# Altium integrated library NSC Interface.IntLib: 1288 symbols (part 28 of 45)
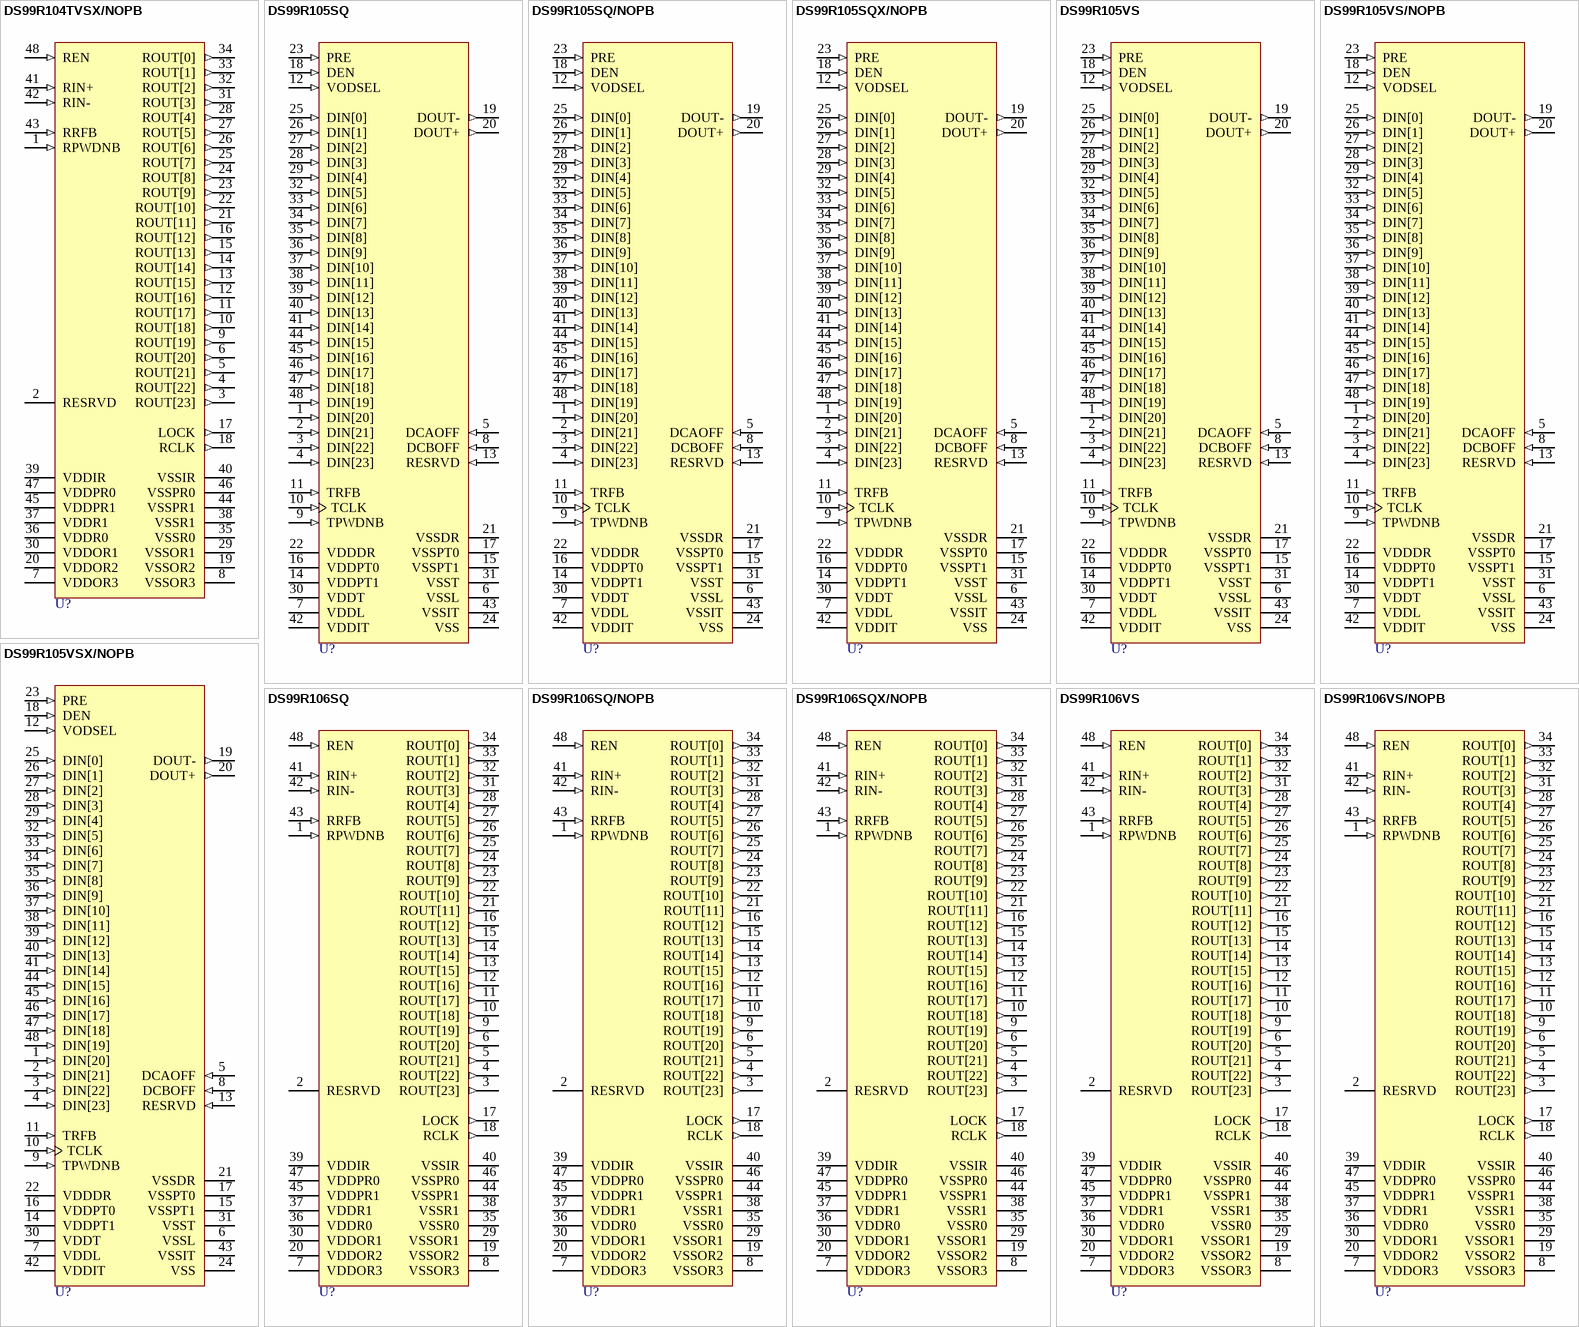
[diagram p139: symbols DS99R104TVSX/NOPB to DS99R106VS/NOPB]

## DS99R106SQ/NOPB
designator U?
3-40MHz DC- Balanced 24-Bit LVDS Deserializer, 48-pin LLP, Pb-Free; PartNumber: DS99R106SQ/NOPB; Manufacturer: National Semiconductor; PackageTopMarking: NS*UZXYTTE#*DS99R106; PowerWise: N; CompType: Interface IC; Published: 1-Mar-2010; DatasheetVersion: Oct-2007; PackageVersion: revA, Jul-2004; PackageReference: SQA48D; Publisher: Altium Limited; PackageDescription: LLP, Quad, 7 x 7 x 0.8mm, 48 Lead, 0.5mm Pitch, 4.1 x 4.1 Exposed Pad; Supplier 1: Digi-Key; Supplier Part Number 1: DS99R106SQTR-ND; Supplier 2: Digi-Key; Supplier Part Number 2: DS99R106SQCT-ND; Supplier 3: Digi-Key; Supplier Part Number 3: DS99R106SQDKR-ND; RoHS: Y; PinCount: 48; ComponentLink1Description: DS99R106 Datasheet; ComponentLink1URL: http://www.national.com/ds/DS/DS99R106.pdf; ComponentLink2Description: DS99R106 Web Page; ComponentLink2URL: http://www.national.com/pf/DS/DS99R106.html; ComponentLink3Description: SQA48D Package Page; ComponentLink3URL: http://www.national.com/packaging/folders/sqa48d.html
footprint SQA48D (QFN, 48-Leads, Body 7x7mm, Pitch 0.5mm, NSC Recommended)
pins: 1 RPWDNB (in), 2 RESRVD, 3 ROUT[23] (out), 4 ROUT[22] (out), 5 ROUT[21] (out), 6 ROUT[20] (out), 7 VDDOR3 (power), 8 VSSOR3 (power), 9 ROUT[19] (out), 10 ROUT[18] (out), 11 ROUT[17] (out), 12 ROUT[16] (out), 13 ROUT[15] (out), 14 ROUT[14] (out), 15 ROUT[13] (out), 16 ROUT[12] (out), 17 LOCK (out), 18 RCLK (out), 19 VSSOR2 (power), 20 VDDOR2 (power), 21 ROUT[11] (out), 22 ROUT[10] (out), 23 ROUT[9] (out), 24 ROUT[8] (out), 25 ROUT[7] (out), 26 ROUT[6] (out), 27 ROUT[5] (out), 28 ROUT[4] (out), 29 VSSOR1 (power), 30 VDDOR1 (power), 31 ROUT[3] (out), 32 ROUT[2] (out), 33 ROUT[1] (out), 34 ROUT[0] (out), 35 VSSR0 (power), 36 VDDR0 (power), 37 VDDR1 (power), 38 VSSR1 (power), 39 VDDIR (power), 40 VSSIR (power), 41 RIN+ (in), 42 RIN- (in), 43 RRFB (in), 44 VSSPR1 (power), 45 VDDPR1 (power), 46 VSSPR0 (power), 47 VDDPR0 (power), 48 REN (in)

## DS99R106SQX/NOPB
designator U?
3-40MHz DC- Balanced 24-Bit LVDS Deserializer, 48-pin LLP, Pb-Free; PartNumber: DS99R106SQX/NOPB; Manufacturer: National Semiconductor; PackageTopMarking: NS*UZXYTTE#*DS99R106; PowerWise: N; CompType: Interface IC; Published: 1-Mar-2010; DatasheetVersion: Oct-2007; PackageVersion: revA, Jul-2004; PackageReference: SQA48D; Publisher: Altium Limited; PackageDescription: LLP, Quad, 7 x 7 x 0.8mm, 48 Lead, 0.5mm Pitch, 4.1 x 4.1 Exposed Pad; Supplier 1: Digi-Key; Supplier Part Number 1: DS99R106SQX-ND; RoHS: Y; PinCount: 48; ComponentLink1Description: DS99R106 Datasheet; ComponentLink1URL: http://www.national.com/ds/DS/DS99R106.pdf; ComponentLink2Description: DS99R106 Web Page; ComponentLink2URL: http://www.national.com/pf/DS/DS99R106.html; ComponentLink3Description: SQA48D Package Page; ComponentLink3URL: http://www.national.com/packaging/folders/sqa48d.html
footprint SQA48D (QFN, 48-Leads, Body 7x7mm, Pitch 0.5mm, NSC Recommended)
pins: 1 RPWDNB (in), 2 RESRVD, 3 ROUT[23] (out), 4 ROUT[22] (out), 5 ROUT[21] (out), 6 ROUT[20] (out), 7 VDDOR3 (power), 8 VSSOR3 (power), 9 ROUT[19] (out), 10 ROUT[18] (out), 11 ROUT[17] (out), 12 ROUT[16] (out), 13 ROUT[15] (out), 14 ROUT[14] (out), 15 ROUT[13] (out), 16 ROUT[12] (out), 17 LOCK (out), 18 RCLK (out), 19 VSSOR2 (power), 20 VDDOR2 (power), 21 ROUT[11] (out), 22 ROUT[10] (out), 23 ROUT[9] (out), 24 ROUT[8] (out), 25 ROUT[7] (out), 26 ROUT[6] (out), 27 ROUT[5] (out), 28 ROUT[4] (out), 29 VSSOR1 (power), 30 VDDOR1 (power), 31 ROUT[3] (out), 32 ROUT[2] (out), 33 ROUT[1] (out), 34 ROUT[0] (out), 35 VSSR0 (power), 36 VDDR0 (power), 37 VDDR1 (power), 38 VSSR1 (power), 39 VDDIR (power), 40 VSSIR (power), 41 RIN+ (in), 42 RIN- (in), 43 RRFB (in), 44 VSSPR1 (power), 45 VDDPR1 (power), 46 VSSPR0 (power), 47 VDDPR0 (power), 48 REN (in)

## DS99R106VS
designator U?
3-40MHz DC- Balanced 24-Bit LVDS Deserializer, 48-pin TQFP; PartNumber: DS99R106VS; Manufacturer: National Semiconductor; PackageTopMarking: NSUZXYTT*DS99R106*VS; PowerWise: N; CompType: Interface IC; Published: 4-Dec-2008; DatasheetVersion: Oct-2007; PackageVersion: revA, Apr-2000; PackageReference: VBC48A; Publisher: Altium Limited; PackageDescription: TQFP, Jedec Metric, 7 x 7 x 1mm, 48 Lead, 0.5mm Pitch; RoHS: Y; PinCount: 48; Code_JEDEC: MS-026-ABC; ComponentLink1Description: DS99R106 Datasheet; ComponentLink1URL: http://www.national.com/ds/DS/DS99R106.pdf; ComponentLink2Description: DS99R106 Web Page; ComponentLink2URL: http://www.national.com/pf/DS/DS99R106.html; ComponentLink3Description: VBC48A Package Page; ComponentLink3URL: http://www.national.com/packaging/folders/vbc48a.html
footprint VBC48A_N (Thin QFP, 48-Leads, Body 7x7mm, Pitch 0.5mm, IPC Medium Density)
footprint VBC48A_L (Thin QFP, 48-Leads, Body 7x7mm, Pitch 0.5mm, IPC High Density)
footprint VBC48A_M (Thin QFP, 48-Leads, Body 7x7mm, Pitch 0.5mm, IPC Low Density)
pins: 1 RPWDNB (in), 2 RESRVD, 3 ROUT[23] (out), 4 ROUT[22] (out), 5 ROUT[21] (out), 6 ROUT[20] (out), 7 VDDOR3 (power), 8 VSSOR3 (power), 9 ROUT[19] (out), 10 ROUT[18] (out), 11 ROUT[17] (out), 12 ROUT[16] (out), 13 ROUT[15] (out), 14 ROUT[14] (out), 15 ROUT[13] (out), 16 ROUT[12] (out), 17 LOCK (out), 18 RCLK (out), 19 VSSOR2 (power), 20 VDDOR2 (power), 21 ROUT[11] (out), 22 ROUT[10] (out), 23 ROUT[9] (out), 24 ROUT[8] (out), 25 ROUT[7] (out), 26 ROUT[6] (out), 27 ROUT[5] (out), 28 ROUT[4] (out), 29 VSSOR1 (power), 30 VDDOR1 (power), 31 ROUT[3] (out), 32 ROUT[2] (out), 33 ROUT[1] (out), 34 ROUT[0] (out), 35 VSSR0 (power), 36 VDDR0 (power), 37 VDDR1 (power), 38 VSSR1 (power), 39 VDDIR (power), 40 VSSIR (power), 41 RIN+ (in), 42 RIN- (in), 43 RRFB (in), 44 VSSPR1 (power), 45 VDDPR1 (power), 46 VSSPR0 (power), 47 VDDPR0 (power), 48 REN (in)

## DS99R106VS/NOPB
designator U?
3-40MHz DC- Balanced 24-Bit LVDS Deserializer, 48-pin TQFP, Pb-Free; PartNumber: DS99R106VS/NOPB; Manufacturer: National Semiconductor; PackageTopMarking: NSUZXYTT*DS99R106*VS; PowerWise: N; CompType: Interface IC; Published: 1-Mar-2010; DatasheetVersion: Oct-2007; PackageVersion: revA, Apr-2000; PackageReference: VBC48A; Publisher: Altium Limited; PackageDescription: TQFP, Jedec Metric, 7 x 7 x 1mm, 48 Lead, 0.5mm Pitch; Supplier 1: Digi-Key; Supplier Part Number 1: DS99R106VS-ND; RoHS: Y; PinCount: 48; Code_JEDEC: MS-026-ABC; ComponentLink1Description: DS99R106 Datasheet; ComponentLink1URL: http://www.national.com/ds/DS/DS99R106.pdf; ComponentLink2Description: DS99R106 Web Page; ComponentLink2URL: http://www.national.com/pf/DS/DS99R106.html; ComponentLink3Description: VBC48A Package Page; ComponentLink3URL: http://www.national.com/packaging/folders/vbc48a.html
footprint VBC48A_N (Thin QFP, 48-Leads, Body 7x7mm, Pitch 0.5mm, IPC Medium Density)
footprint VBC48A_L (Thin QFP, 48-Leads, Body 7x7mm, Pitch 0.5mm, IPC High Density)
footprint VBC48A_M (Thin QFP, 48-Leads, Body 7x7mm, Pitch 0.5mm, IPC Low Density)
pins: 1 RPWDNB (in), 2 RESRVD, 3 ROUT[23] (out), 4 ROUT[22] (out), 5 ROUT[21] (out), 6 ROUT[20] (out), 7 VDDOR3 (power), 8 VSSOR3 (power), 9 ROUT[19] (out), 10 ROUT[18] (out), 11 ROUT[17] (out), 12 ROUT[16] (out), 13 ROUT[15] (out), 14 ROUT[14] (out), 15 ROUT[13] (out), 16 ROUT[12] (out), 17 LOCK (out), 18 RCLK (out), 19 VSSOR2 (power), 20 VDDOR2 (power), 21 ROUT[11] (out), 22 ROUT[10] (out), 23 ROUT[9] (out), 24 ROUT[8] (out), 25 ROUT[7] (out), 26 ROUT[6] (out), 27 ROUT[5] (out), 28 ROUT[4] (out), 29 VSSOR1 (power), 30 VDDOR1 (power), 31 ROUT[3] (out), 32 ROUT[2] (out), 33 ROUT[1] (out), 34 ROUT[0] (out), 35 VSSR0 (power), 36 VDDR0 (power), 37 VDDR1 (power), 38 VSSR1 (power), 39 VDDIR (power), 40 VSSIR (power), 41 RIN+ (in), 42 RIN- (in), 43 RRFB (in), 44 VSSPR1 (power), 45 VDDPR1 (power), 46 VSSPR0 (power), 47 VDDPR0 (power), 48 REN (in)

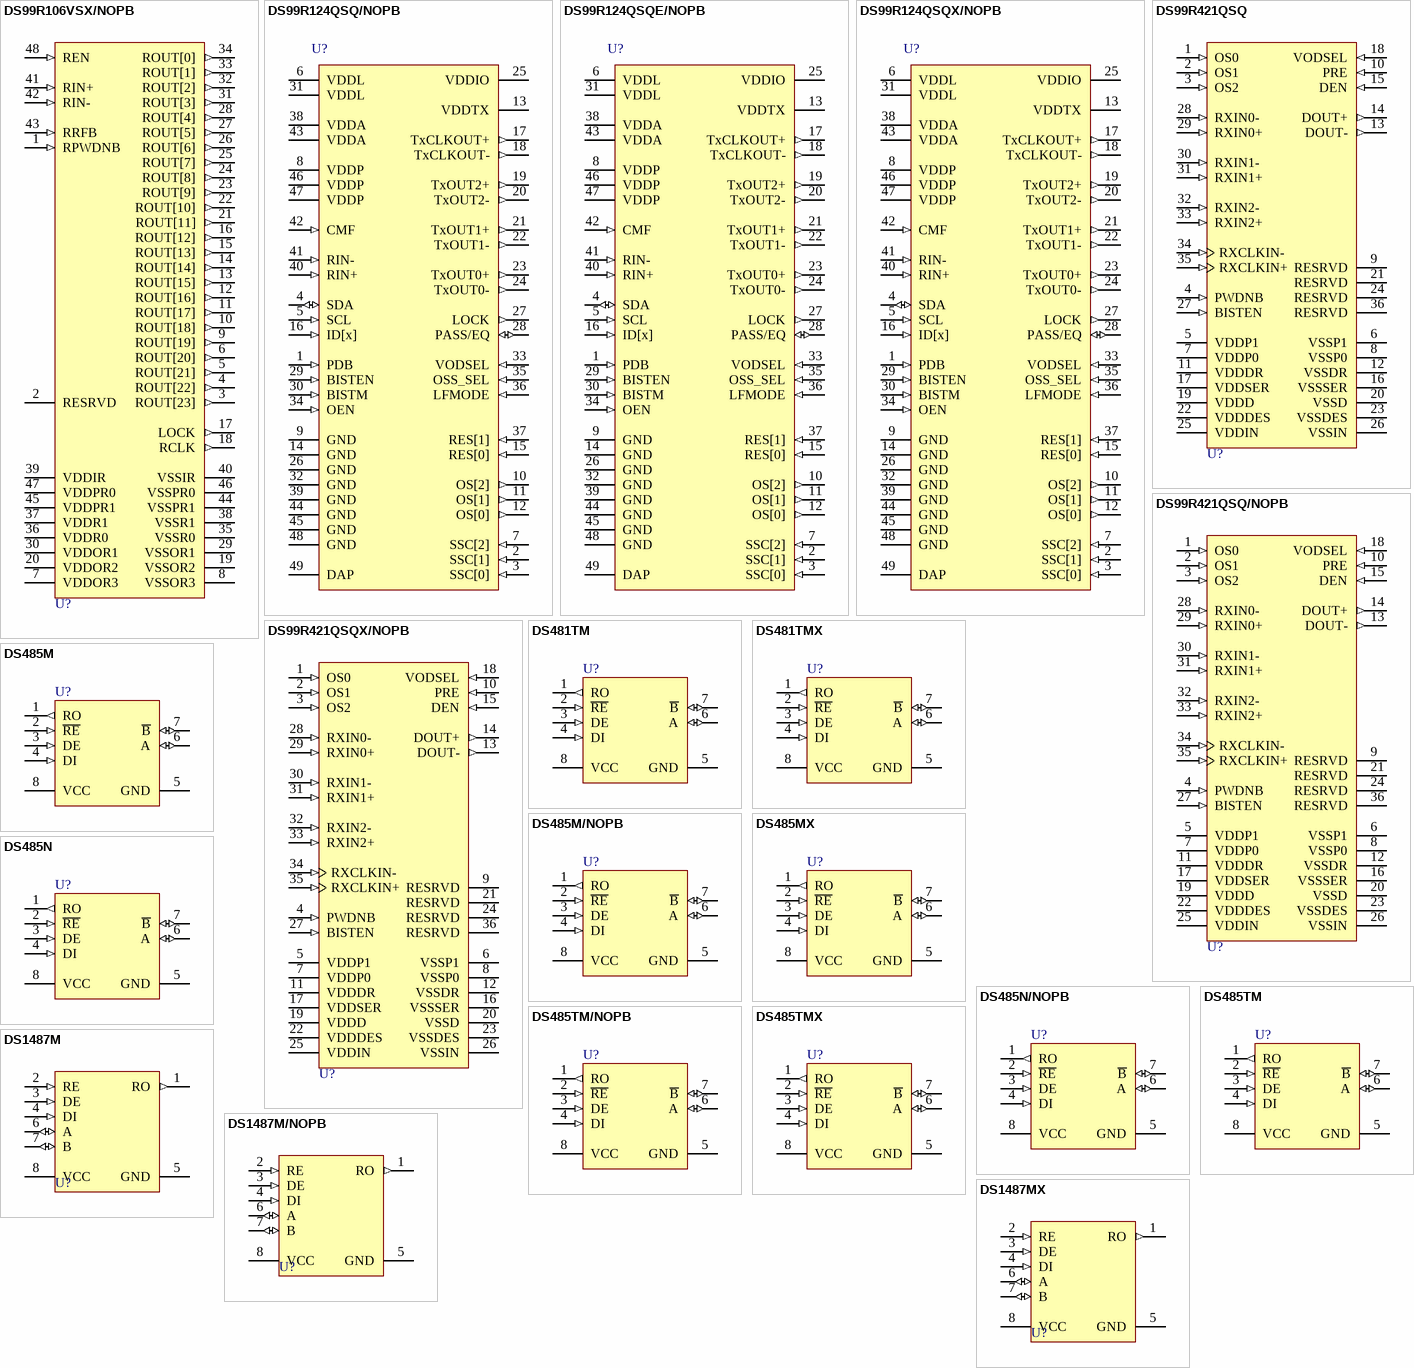
[diagram p73: symbols DS99R106VSX/NOPB to DS1487MX]

## DS99R106VSX/NOPB
designator U?
3-40MHz DC- Balanced 24-Bit LVDS Deserializer, 48-pin TQFP, Pb-Free; PartNumber: DS99R106VSX/NOPB; Manufacturer: National Semiconductor; PackageTopMarking: NSUZXYTT*DS99R106*VS; PowerWise: N; CompType: Interface IC; Published: 1-Mar-2010; DatasheetVersion: Oct-2007; PackageVersion: revA, Apr-2000; PackageReference: VBC48A; Publisher: Altium Limited; PackageDescription: TQFP, Jedec Metric, 7 x 7 x 1mm, 48 Lead, 0.5mm Pitch; Supplier 1: Digi-Key; Supplier Part Number 1: DS99R106VSX-ND; RoHS: Y; PinCount: 48; Code_JEDEC: MS-026-ABC; ComponentLink1Description: DS99R106 Datasheet; ComponentLink1URL: http://www.national.com/ds/DS/DS99R106.pdf; ComponentLink2Description: DS99R106 Web Page; ComponentLink2URL: http://www.national.com/pf/DS/DS99R106.html; ComponentLink3Description: VBC48A Package Page; ComponentLink3URL: http://www.national.com/packaging/folders/vbc48a.html
footprint VBC48A_N (Thin QFP, 48-Leads, Body 7x7mm, Pitch 0.5mm, IPC Medium Density)
footprint VBC48A_L (Thin QFP, 48-Leads, Body 7x7mm, Pitch 0.5mm, IPC High Density)
footprint VBC48A_M (Thin QFP, 48-Leads, Body 7x7mm, Pitch 0.5mm, IPC Low Density)
pins: 1 RPWDNB (in), 2 RESRVD, 3 ROUT[23] (out), 4 ROUT[22] (out), 5 ROUT[21] (out), 6 ROUT[20] (out), 7 VDDOR3 (power), 8 VSSOR3 (power), 9 ROUT[19] (out), 10 ROUT[18] (out), 11 ROUT[17] (out), 12 ROUT[16] (out), 13 ROUT[15] (out), 14 ROUT[14] (out), 15 ROUT[13] (out), 16 ROUT[12] (out), 17 LOCK (out), 18 RCLK (out), 19 VSSOR2 (power), 20 VDDOR2 (power), 21 ROUT[11] (out), 22 ROUT[10] (out), 23 ROUT[9] (out), 24 ROUT[8] (out), 25 ROUT[7] (out), 26 ROUT[6] (out), 27 ROUT[5] (out), 28 ROUT[4] (out), 29 VSSOR1 (power), 30 VDDOR1 (power), 31 ROUT[3] (out), 32 ROUT[2] (out), 33 ROUT[1] (out), 34 ROUT[0] (out), 35 VSSR0 (power), 36 VDDR0 (power), 37 VDDR1 (power), 38 VSSR1 (power), 39 VDDIR (power), 40 VSSIR (power), 41 RIN+ (in), 42 RIN- (in), 43 RRFB (in), 44 VSSPR1 (power), 45 VDDPR1 (power), 46 VSSPR0 (power), 47 VDDPR0 (power), 48 REN (in)

## DS99R124QSQ/NOPB
designator U?
5 - 43 MHz 18-bit Color FPD-Link II to FPD-Link Converter, 48 pin LLP, Pb-Free; PartNumber: DS99R124QSQ/NOPB; Manufacturer: National Semiconductor; PackageTopMarking: NS*UZXYTTE#*DS99R124Q; PowerWise: N; CompType: Interface IC; Published: 1-Mar-2010; DatasheetVersion: Jan-2010; PackageVersion: revA, Jul-2004; PackageReference: SQA48D; Publisher: Altium Limited; PackageDescription: LLP, Quad, 7 x 7 x 0.8mm, 48 Lead, 0.5mm Pitch, 4.1 x 4.1 Exposed Pad; Supplier 1: Digi-Key; Supplier Part Number 1: DS99R124QSQ-ND; RoHS: Y; PinCount: 48; ComponentLink1Description: DS99R124Q Datasheet; ComponentLink1URL: http://www.national.com/ds/DS/DS99R124Q.pdf; ComponentLink2Description: DS99R124Q Web Page; ComponentLink2URL: http://www.national.com/pf/DS/DS99R124Q.html; ComponentLink3Description: SQA48D Package Page; ComponentLink3URL: http://www.national.com/packaging/folders/sqa48d.html
footprint SQA48D (QFN, 48-Leads, Body 7x7mm, Pitch 0.5mm, NSC Recommended)
pins: 1 PDB (in), 2 SSC[1] (in), 3 SSC[0] (in), 4 SDA (io), 5 SCL (in), 6 VDDL (power), 7 SSC[2] (in), 8 VDDP (power), 9 GND (power), 10 OS[2] (out), 11 OS[1] (out), 12 OS[0] (out), 13 VDDTX (power), 14 GND (power), 15 RES[0] (in), 16 ID[x] (in), 17 TxCLKOUT+ (out), 18 TxCLKOUT- (out), 19 TxOUT2+ (out), 20 TxOUT2- (out), 21 TxOUT1+ (out), 22 TxOUT1- (out), 23 TxOUT0+ (out), 24 TxOUT0- (out), 25 VDDIO (power), 26 GND (power), 27 LOCK (out), 28 PASS/EQ (io), 29 BISTEN (in), 30 BISTM (in), 31 VDDL (power), 32 GND (power), 33 VODSEL (in), 34 OEN (in), 35 OSS_SEL (in), 36 LFMODE (in), 37 RES[1] (in), 38 VDDA (power), 39 GND (power), 40 RIN+ (in), 41 RIN- (in), 42 CMF (in), 43 VDDA (power), 44 GND (power), 45 GND (power), 46 VDDP (power), 47 VDDP (power), 48 GND (power), 49 DAP (power)

## DS99R124QSQE/NOPB
designator U?
5 - 43 MHz 18-bit Color FPD-Link II to FPD-Link Converter, 48 pin LLP, Pb-Free; PartNumber: DS99R124QSQE/NOPB; Manufacturer: National Semiconductor; PackageTopMarking: NS*UZXYTTE#*DS99R124Q; PowerWise: N; CompType: Interface IC; Published: 1-Mar-2010; DatasheetVersion: Jan-2010; PackageVersion: revA, Jul-2004; PackageReference: SQA48D; Publisher: Altium Limited; PackageDescription: LLP, Quad, 7 x 7 x 0.8mm, 48 Lead, 0.5mm Pitch, 4.1 x 4.1 Exposed Pad; Supplier 1: Digi-Key; Supplier Part Number 1: DS99R124QSQETR-ND; Supplier 2: Digi-Key; Supplier Part Number 2: DS99R124QSQECT-ND; Supplier 3: Digi-Key; Supplier Part Number 3: DS99R124QSQEDKR-ND; RoHS: Y; PinCount: 48; ComponentLink1Description: DS99R124Q Datasheet; ComponentLink1URL: http://www.national.com/ds/DS/DS99R124Q.pdf; ComponentLink2Description: DS99R124Q Web Page; ComponentLink2URL: http://www.national.com/pf/DS/DS99R124Q.html; ComponentLink3Description: SQA48D Package Page; ComponentLink3URL: http://www.national.com/packaging/folders/sqa48d.html
footprint SQA48D (QFN, 48-Leads, Body 7x7mm, Pitch 0.5mm, NSC Recommended)
pins: 1 PDB (in), 2 SSC[1] (in), 3 SSC[0] (in), 4 SDA (io), 5 SCL (in), 6 VDDL (power), 7 SSC[2] (in), 8 VDDP (power), 9 GND (power), 10 OS[2] (out), 11 OS[1] (out), 12 OS[0] (out), 13 VDDTX (power), 14 GND (power), 15 RES[0] (in), 16 ID[x] (in), 17 TxCLKOUT+ (out), 18 TxCLKOUT- (out), 19 TxOUT2+ (out), 20 TxOUT2- (out), 21 TxOUT1+ (out), 22 TxOUT1- (out), 23 TxOUT0+ (out), 24 TxOUT0- (out), 25 VDDIO (power), 26 GND (power), 27 LOCK (out), 28 PASS/EQ (io), 29 BISTEN (in), 30 BISTM (in), 31 VDDL (power), 32 GND (power), 33 VODSEL (in), 34 OEN (in), 35 OSS_SEL (in), 36 LFMODE (in), 37 RES[1] (in), 38 VDDA (power), 39 GND (power), 40 RIN+ (in), 41 RIN- (in), 42 CMF (in), 43 VDDA (power), 44 GND (power), 45 GND (power), 46 VDDP (power), 47 VDDP (power), 48 GND (power), 49 DAP (power)

## DS99R124QSQX/NOPB
designator U?
5 - 43 MHz 18-bit Color FPD-Link II to FPD-Link Converter, 48 pin LLP, Pb-Free; PartNumber: DS99R124QSQX/NOPB; Manufacturer: National Semiconductor; PackageTopMarking: NS*UZXYTTE#*DS99R124Q; PowerWise: N; CompType: Interface IC; Published: 1-Mar-2010; DatasheetVersion: Jan-2010; PackageVersion: revA, Jul-2004; PackageReference: SQA48D; Publisher: Altium Limited; PackageDescription: LLP, Quad, 7 x 7 x 0.8mm, 48 Lead, 0.5mm Pitch, 4.1 x 4.1 Exposed Pad; Supplier 1: Digi-Key; Supplier Part Number 1: DS99R124QSQX-ND; RoHS: Y; PinCount: 48; ComponentLink1Description: DS99R124Q Datasheet; ComponentLink1URL: http://www.national.com/ds/DS/DS99R124Q.pdf; ComponentLink2Description: DS99R124Q Web Page; ComponentLink2URL: http://www.national.com/pf/DS/DS99R124Q.html; ComponentLink3Description: SQA48D Package Page; ComponentLink3URL: http://www.national.com/packaging/folders/sqa48d.html
footprint SQA48D (QFN, 48-Leads, Body 7x7mm, Pitch 0.5mm, NSC Recommended)
pins: 1 PDB (in), 2 SSC[1] (in), 3 SSC[0] (in), 4 SDA (io), 5 SCL (in), 6 VDDL (power), 7 SSC[2] (in), 8 VDDP (power), 9 GND (power), 10 OS[2] (out), 11 OS[1] (out), 12 OS[0] (out), 13 VDDTX (power), 14 GND (power), 15 RES[0] (in), 16 ID[x] (in), 17 TxCLKOUT+ (out), 18 TxCLKOUT- (out), 19 TxOUT2+ (out), 20 TxOUT2- (out), 21 TxOUT1+ (out), 22 TxOUT1- (out), 23 TxOUT0+ (out), 24 TxOUT0- (out), 25 VDDIO (power), 26 GND (power), 27 LOCK (out), 28 PASS/EQ (io), 29 BISTEN (in), 30 BISTM (in), 31 VDDL (power), 32 GND (power), 33 VODSEL (in), 34 OEN (in), 35 OSS_SEL (in), 36 LFMODE (in), 37 RES[1] (in), 38 VDDA (power), 39 GND (power), 40 RIN+ (in), 41 RIN- (in), 42 CMF (in), 43 VDDA (power), 44 GND (power), 45 GND (power), 46 VDDP (power), 47 VDDP (power), 48 GND (power), 49 DAP (power)

## DS99R421QSQ
designator U?
5-43 MHz FPD-Link LVDS (3 Data + 1 Clock) to Single Embedded Clock DC-Balanced LVDS Converter, 36-pin LLP; PartNumber: DS99R421QSQ; Manufacturer: National Semiconductor; PackageTopMarking: NS*UZXYTT*99R421Q; PowerWise: N; CompType: Interface IC; Published: 4-Dec-2008; DatasheetVersion: Sep-2009; PackageVersion: revA, Jun-2003; PackageReference: SQA36A; Publisher: Altium Limited; PackageDescription: LLP, Plastic, Quad, 6 x 6 x 0.8mm Body, 36 Lead, 0.5mm Pitch, No Pullback; RoHS: Y; PinCount: 36; ComponentLink1Description: DS99R421 Datasheet; ComponentLink1URL: http://www.national.com/ds/DS/DS99R421.pdf; ComponentLink2Description: DS99R421 Web Page; ComponentLink2URL: http://www.national.com/pf/DS/DS99R421.html; ComponentLink3Description: SQA36A Package Page; ComponentLink3URL: http://www.national.com/packaging/folders/sqa36a.html
footprint SQA36A (QFN, 36-Leads, Body 6x6mm, Pitch 0.5mm, NSC Recommended)
pins: 1 OS0 (in), 2 OS1 (in), 3 OS2 (in), 4 PWDNB (in), 5 VDDP1 (power), 6 VSSP1 (power), 7 VDDP0 (power), 8 VSSP0 (power), 9 RESRVD, 10 PRE (in), 11 VDDDR (power), 12 VSSDR (power), 13 DOUT- (out), 14 DOUT+ (out), 15 DEN (in), 16 VSSSER (power), 17 VDDSER (power), 18 VODSEL (in), 19 VDDD (power), 20 VSSD (power), 21 RESRVD, 22 VDDDES (power), 23 VSSDES (power), 24 RESRVD, 25 VDDIN (power), 26 VSSIN (power), 27 BISTEN (in), 28 RXIN0- (in), 29 RXIN0+ (in), 30 RXIN1- (in), 31 RXIN1+ (in), 32 RXIN2- (in), 33 RXIN2+ (in), 34 RXCLKIN- (in), 35 RXCLKIN+ (in), 36 RESRVD

## DS99R421QSQ/NOPB
designator U?
5-43 MHz FPD-Link LVDS (3 Data + 1 Clock) to FPD-Link II LVDS (Embedded Clock DC-Balanced) Converter, 36-pin LLP, Pb-Free; PartNumber: DS99R421QSQ/NOPB; Manufacturer: National Semiconductor; PackageTopMarking: NS*UZXYTTE#*99R421Q; PowerWise: N; CompType: Interface IC; Published: 1-Mar-2010; DatasheetVersion: Sep-2009; PackageVersion: revA, Jun-2003; PackageReference: SQA36A; Publisher: Altium Limited; PackageDescription: LLP, Plastic, Quad, 6 x 6 x 0.8mm Body, 36 Lead, 0.5mm Pitch, No Pullback; Supplier 1: Digi-Key; Supplier Part Number 1: DS99R421QSQTR-ND; Supplier 2: Digi-Key; Supplier Part Number 2: DS99R421QSQCT-ND; Supplier 3: Digi-Key; Supplier Part Number 3: DS99R421QSQDKR-ND; RoHS: Y; PinCount: 36; ComponentLink1Description: DS99R421 Datasheet; ComponentLink1URL: http://www.national.com/ds/DS/DS99R421.pdf; ComponentLink2Description: DS99R421 Web Page; ComponentLink2URL: http://www.national.com/pf/DS/DS99R421.html; ComponentLink3Description: SQA36A Package Page; ComponentLink3URL: http://www.national.com/packaging/folders/sqa36a.html
footprint SQA36A (QFN, 36-Leads, Body 6x6mm, Pitch 0.5mm, NSC Recommended)
pins: 1 OS0 (in), 2 OS1 (in), 3 OS2 (in), 4 PWDNB (in), 5 VDDP1 (power), 6 VSSP1 (power), 7 VDDP0 (power), 8 VSSP0 (power), 9 RESRVD, 10 PRE (in), 11 VDDDR (power), 12 VSSDR (power), 13 DOUT- (out), 14 DOUT+ (out), 15 DEN (in), 16 VSSSER (power), 17 VDDSER (power), 18 VODSEL (in), 19 VDDD (power), 20 VSSD (power), 21 RESRVD, 22 VDDDES (power), 23 VSSDES (power), 24 RESRVD, 25 VDDIN (power), 26 VSSIN (power), 27 BISTEN (in), 28 RXIN0- (in), 29 RXIN0+ (in), 30 RXIN1- (in), 31 RXIN1+ (in), 32 RXIN2- (in), 33 RXIN2+ (in), 34 RXCLKIN- (in), 35 RXCLKIN+ (in), 36 RESRVD

## DS99R421QSQX/NOPB
designator U?
5-43 MHz FPD-Link LVDS (3 Data + 1 Clock) to FPD-Link II LVDS (Embedded Clock DC-Balanced) Converter, 36-pin LLP, Pb-Free; PartNumber: DS99R421QSQX/NOPB; Manufacturer: National Semiconductor; PackageTopMarking: NS*UZXYTTE#*99R421Q; PowerWise: N; CompType: Interface IC; Published: 1-Mar-2010; DatasheetVersion: Sep-2009; PackageVersion: revA, Jun-2003; PackageReference: SQA36A; Publisher: Altium Limited; PackageDescription: LLP, Plastic, Quad, 6 x 6 x 0.8mm Body, 36 Lead, 0.5mm Pitch, No Pullback; Supplier 1: Digi-Key; Supplier Part Number 1: DS99R421QSQX-ND; RoHS: Y; PinCount: 36; ComponentLink1Description: DS99R421 Datasheet; ComponentLink1URL: http://www.national.com/ds/DS/DS99R421.pdf; ComponentLink2Description: DS99R421 Web Page; ComponentLink2URL: http://www.national.com/pf/DS/DS99R421.html; ComponentLink3Description: SQA36A Package Page; ComponentLink3URL: http://www.national.com/packaging/folders/sqa36a.html
footprint SQA36A (QFN, 36-Leads, Body 6x6mm, Pitch 0.5mm, NSC Recommended)
pins: 1 OS0 (in), 2 OS1 (in), 3 OS2 (in), 4 PWDNB (in), 5 VDDP1 (power), 6 VSSP1 (power), 7 VDDP0 (power), 8 VSSP0 (power), 9 RESRVD, 10 PRE (in), 11 VDDDR (power), 12 VSSDR (power), 13 DOUT- (out), 14 DOUT+ (out), 15 DEN (in), 16 VSSSER (power), 17 VDDSER (power), 18 VODSEL (in), 19 VDDD (power), 20 VSSD (power), 21 RESRVD, 22 VDDDES (power), 23 VSSDES (power), 24 RESRVD, 25 VDDIN (power), 26 VSSIN (power), 27 BISTEN (in), 28 RXIN0- (in), 29 RXIN0+ (in), 30 RXIN1- (in), 31 RXIN1+ (in), 32 RXIN2- (in), 33 RXIN2+ (in), 34 RXCLKIN- (in), 35 RXCLKIN+ (in), 36 RESRVD

## DS481TM
designator U?
Low Power RS-485/RS-422 Multipoint Transceiver with Sleep Mode, 8-pin Narrow SOIC; PartNumber: DS481TM; Manufacturer: National Semiconductor; PackageTopMarking: NSZXTT*DS481*TM; PowerWise: N; CompType: Interface IC; Published: 4-Dec-2008; DatasheetVersion: Jul-2000; PackageVersion: revM, May-2009; PackageReference: M08A; Publisher: Altium Limited; PackageDescription: SOIC Narrow, 4.9 x 3.9 x 1.45mm, 8 Lead, 1.27mm Pitch; Supplier 1: Farnell; Supplier Part Number 1: 1798307; RoHS: N; PinCount: 8; Code_JEDEC: MS-012-AA; Code_IPC: SOIC127P600-8; ComponentLink1Description: DS481 Datasheet; ComponentLink1URL: http://www.national.com/ds/DS/DS481.pdf; ComponentLink2Description: DS481 Web Page; ComponentLink2URL: http://www.national.com/pf/DS/DS481.html; ComponentLink3Description: M08A Package Page; ComponentLink3URL: http://www.national.com/packaging/folders/m08a.html
footprint M08A_N (SOIC, 8-Leads, Body 4.9x3.9mm, Pitch 1.27mm, IPC Medium Density)
footprint M08A_L (SOIC, 8-Leads, Body 4.9x3.9mm, Pitch 1.27mm, IPC High Density)
footprint M08A_M (SOIC, 8-Leads, Body 4.9x3.9mm, Pitch 1.27mm, IPC Low Density)
pins: 1 RO (out), 2 ~{RE} (in), 3 DE (in), 4 DI (in), 5 GND (power), 6 A (io), 7 ~{B} (io), 8 VCC (power)

## DS481TMX
designator U?
Low Power RS-485/RS-422 Multipoint Transceiver with Sleep Mode, 8-pin Narrow SOIC; PartNumber: DS481TMX; Manufacturer: National Semiconductor; PackageTopMarking: NSZXTT*DS481*TM; PowerWise: N; CompType: Interface IC; Published: 1-Mar-2010; DatasheetVersion: Jul-2000; PackageVersion: revM, May-2009; PackageReference: M08A; Publisher: Altium Limited; PackageDescription: SOIC Narrow, 4.9 x 3.9 x 1.45mm, 8 Lead, 1.27mm Pitch; RoHS: N; PinCount: 8; Code_JEDEC: MS-012-AA; Code_IPC: SOIC127P600-8; ComponentLink1Description: DS481 Datasheet; ComponentLink1URL: http://www.national.com/ds/DS/DS481.pdf; ComponentLink2Description: DS481 Web Page; ComponentLink2URL: http://www.national.com/pf/DS/DS481.html; ComponentLink3Description: M08A Package Page; ComponentLink3URL: http://www.national.com/packaging/folders/m08a.html
footprint M08A_N (SOIC, 8-Leads, Body 4.9x3.9mm, Pitch 1.27mm, IPC Medium Density)
footprint M08A_L (SOIC, 8-Leads, Body 4.9x3.9mm, Pitch 1.27mm, IPC High Density)
footprint M08A_M (SOIC, 8-Leads, Body 4.9x3.9mm, Pitch 1.27mm, IPC Low Density)
pins: 1 RO (out), 2 ~{RE} (in), 3 DE (in), 4 DI (in), 5 GND (power), 6 A (io), 7 ~{B} (io), 8 VCC (power)

## DS485M
designator U?
Low-Power RS-485/RS-422 Multipoint Transceiver, 8-pin Narrow SOIC; PartNumber: DS485M; Manufacturer: National Semiconductor; PackageTopMarking: NSZXTT*DS485*M; PowerWise: N; CompType: Interface IC; Published: 4-Dec-2008; DatasheetVersion: Jul-1998; PackageVersion: revM, May-2009; PackageReference: M08A; Publisher: Altium Limited; PackageDescription: SOIC Narrow, 4.9 x 3.9 x 1.45mm, 8 Lead, 1.27mm Pitch; Supplier 1: Farnell; Supplier Part Number 1: 9490078; RoHS: N; PinCount: 8; Code_JEDEC: MS-012-AA; Code_IPC: SOIC127P600-8; ComponentLink1Description: DS485 Datasheet; ComponentLink1URL: http://www.national.com/ds/DS/DS485.pdf; ComponentLink2Description: DS485 Web Page; ComponentLink2URL: http://www.national.com/pf/DS/DS485.html; ComponentLink3Description: M08A Package Page; ComponentLink3URL: http://www.national.com/packaging/folders/m08a.html
footprint M08A_N (SOIC, 8-Leads, Body 4.9x3.9mm, Pitch 1.27mm, IPC Medium Density)
footprint M08A_L (SOIC, 8-Leads, Body 4.9x3.9mm, Pitch 1.27mm, IPC High Density)
footprint M08A_M (SOIC, 8-Leads, Body 4.9x3.9mm, Pitch 1.27mm, IPC Low Density)
pins: 1 RO (out), 2 ~{RE} (in), 3 DE (in), 4 DI (in), 5 GND (power), 6 A (io), 7 ~{B} (io), 8 VCC (power)

## DS485M/NOPB
designator U?
Low-Power RS-485/RS-422 Multipoint Transceiver, 8-pin Narrow SOIC, Pb-Free; PartNumber: DS485M/NOPB; Manufacturer: National Semiconductor; PackageTopMarking: NSZXTT*DS485*M; PowerWise: N; CompType: Interface IC; Published: 1-Mar-2010; DatasheetVersion: Jul-1998; PackageVersion: revM, May-2009; PackageReference: M08A; Publisher: Altium Limited; PackageDescription: SOIC Narrow, 4.9 x 3.9 x 1.45mm, 8 Lead, 1.27mm Pitch; Supplier 1: Digi-Key; Supplier Part Number 1: DS485M-ND; RoHS: Y; PinCount: 8; Code_JEDEC: MS-012-AA; Code_IPC: SOIC127P600-8; ComponentLink1Description: DS485 Datasheet; ComponentLink1URL: http://www.national.com/ds/DS/DS485.pdf; ComponentLink2Description: DS485 Web Page; ComponentLink2URL: http://www.national.com/pf/DS/DS485.html; ComponentLink3Description: M08A Package Page; ComponentLink3URL: http://www.national.com/packaging/folders/m08a.html
footprint M08A_N (SOIC, 8-Leads, Body 4.9x3.9mm, Pitch 1.27mm, IPC Medium Density)
footprint M08A_L (SOIC, 8-Leads, Body 4.9x3.9mm, Pitch 1.27mm, IPC High Density)
footprint M08A_M (SOIC, 8-Leads, Body 4.9x3.9mm, Pitch 1.27mm, IPC Low Density)
pins: 1 RO (out), 2 ~{RE} (in), 3 DE (in), 4 DI (in), 5 GND (power), 6 A (io), 7 ~{B} (io), 8 VCC (power)

## DS485MX
designator U?
Low-Power RS-485/RS-422 Multipoint Transceiver, 8-pin Narrow SOIC; PartNumber: DS485MX; Manufacturer: National Semiconductor; PackageTopMarking: NSZXTT*DS485*M; PowerWise: N; CompType: Interface IC; Published: 1-Mar-2010; DatasheetVersion: Jul-1998; PackageVersion: revM, May-2009; PackageReference: M08A; Publisher: Altium Limited; PackageDescription: SOIC Narrow, 4.9 x 3.9 x 1.45mm, 8 Lead, 1.27mm Pitch; RoHS: N; PinCount: 8; Code_JEDEC: MS-012-AA; Code_IPC: SOIC127P600-8; ComponentLink1Description: DS485 Datasheet; ComponentLink1URL: http://www.national.com/ds/DS/DS485.pdf; ComponentLink2Description: DS485 Web Page; ComponentLink2URL: http://www.national.com/pf/DS/DS485.html; ComponentLink3Description: M08A Package Page; ComponentLink3URL: http://www.national.com/packaging/folders/m08a.html
footprint M08A_N (SOIC, 8-Leads, Body 4.9x3.9mm, Pitch 1.27mm, IPC Medium Density)
footprint M08A_L (SOIC, 8-Leads, Body 4.9x3.9mm, Pitch 1.27mm, IPC High Density)
footprint M08A_M (SOIC, 8-Leads, Body 4.9x3.9mm, Pitch 1.27mm, IPC Low Density)
pins: 1 RO (out), 2 ~{RE} (in), 3 DE (in), 4 DI (in), 5 GND (power), 6 A (io), 7 ~{B} (io), 8 VCC (power)

## DS485N
designator U?
Low-Power RS-485/RS-422 Multipoint Transceiver, 8-pin MDIP; PartNumber: DS485N; Manufacturer: National Semiconductor; PackageTopMarking: NSUZXYTTE#*DS485*N; PowerWise: N; CompType: Interface IC; Published: 4-Dec-2008; DatasheetVersion: Jul-1998; PackageVersion: revG, May-2006; PackageReference: N08E; Publisher: Altium Limited; PackageDescription: MDIP, .365 x .250 x .130in, 8 Lead, .100in Pitch; Supplier 1: Farnell; Supplier Part Number 1: 9490086; RoHS: N; PinCount: 8; Code_JEDEC: MS-001-BA; ComponentLink1Description: DS485 Datasheet; ComponentLink1URL: http://www.national.com/ds/DS/DS485.pdf; ComponentLink2Description: DS485 Web Page; ComponentLink2URL: http://www.national.com/pf/DS/DS485.html; ComponentLink3Description: N08E Package Page; ComponentLink3URL: http://www.national.com/packaging/folders/n08e.html
footprint N08E (DIP, 8-Leads, Row Spacing 7.62mm, Pitch 2.54mm, Body 9.91x6.35mm)
pins: 1 RO (out), 2 ~{RE} (in), 3 DE (in), 4 DI (in), 5 GND (power), 6 A (io), 7 ~{B} (io), 8 VCC (power)

## DS485N/NOPB
designator U?
Low-Power RS-485/RS-422 Multipoint Transceiver, 8-pin MDIP, Pb-Free; PartNumber: DS485N/NOPB; Manufacturer: National Semiconductor; PackageTopMarking: NSUZXYTTE#*DS485*N; PowerWise: N; CompType: Interface IC; Published: 1-Mar-2010; DatasheetVersion: Jul-1998; PackageVersion: revG, May-2006; PackageReference: N08E; Publisher: Altium Limited; PackageDescription: MDIP, .365 x .250 x .130in, 8 Lead, .100in Pitch; Supplier 1: Digi-Key; Supplier Part Number 1: DS485N-ND; RoHS: Y; PinCount: 8; Code_JEDEC: MS-001-BA; ComponentLink1Description: DS485 Datasheet; ComponentLink1URL: http://www.national.com/ds/DS/DS485.pdf; ComponentLink2Description: DS485 Web Page; ComponentLink2URL: http://www.national.com/pf/DS/DS485.html; ComponentLink3Description: N08E Package Page; ComponentLink3URL: http://www.national.com/packaging/folders/n08e.html
footprint N08E (DIP, 8-Leads, Row Spacing 7.62mm, Pitch 2.54mm, Body 9.91x6.35mm)
pins: 1 RO (out), 2 ~{RE} (in), 3 DE (in), 4 DI (in), 5 GND (power), 6 A (io), 7 ~{B} (io), 8 VCC (power)

## DS485TM
designator U?
Low-Power RS-485/RS-422 Multipoint Transceiver, 8-pin Narrow SOIC; PartNumber: DS485TM; Manufacturer: National Semiconductor; PackageTopMarking: NSZXTT*DS485*TM; PowerWise: N; CompType: Interface IC; Published: 4-Dec-2008; DatasheetVersion: Jul-1998; PackageVersion: revM, May-2009; PackageReference: M08A; Publisher: Altium Limited; PackageDescription: SOIC Narrow, 4.9 x 3.9 x 1.45mm, 8 Lead, 1.27mm Pitch; RoHS: N; PinCount: 8; Code_JEDEC: MS-012-AA; Code_IPC: SOIC127P600-8; ComponentLink1Description: DS485 Datasheet; ComponentLink1URL: http://www.national.com/ds/DS/DS485.pdf; ComponentLink2Description: DS485 Web Page; ComponentLink2URL: http://www.national.com/pf/DS/DS485.html; ComponentLink3Description: M08A Package Page; ComponentLink3URL: http://www.national.com/packaging/folders/m08a.html
footprint M08A_N (SOIC, 8-Leads, Body 4.9x3.9mm, Pitch 1.27mm, IPC Medium Density)
footprint M08A_L (SOIC, 8-Leads, Body 4.9x3.9mm, Pitch 1.27mm, IPC High Density)
footprint M08A_M (SOIC, 8-Leads, Body 4.9x3.9mm, Pitch 1.27mm, IPC Low Density)
pins: 1 RO (out), 2 ~{RE} (in), 3 DE (in), 4 DI (in), 5 GND (power), 6 A (io), 7 ~{B} (io), 8 VCC (power)

## DS485TM/NOPB
designator U?
Low-Power RS-485/RS-422 Multipoint Transceiver, 8-pin Narrow SOIC, Pb-Free; PartNumber: DS485TM/NOPB; Manufacturer: National Semiconductor; PackageTopMarking: NSZXTT*DS485*TM; PowerWise: N; CompType: Interface IC; Published: 1-Mar-2010; DatasheetVersion: Jul-1998; PackageVersion: revM, May-2009; PackageReference: M08A; Publisher: Altium Limited; PackageDescription: SOIC Narrow, 4.9 x 3.9 x 1.45mm, 8 Lead, 1.27mm Pitch; Supplier 1: Digi-Key; Supplier Part Number 1: DS485TM-ND; Supplier 2: Farnell; Supplier Part Number 2: 1693510; RoHS: Y; PinCount: 8; Code_JEDEC: MS-012-AA; Code_IPC: SOIC127P600-8; ComponentLink1Description: DS485 Datasheet; ComponentLink1URL: http://www.national.com/ds/DS/DS485.pdf; ComponentLink2Description: DS485 Web Page; ComponentLink2URL: http://www.national.com/pf/DS/DS485.html; ComponentLink3Description: M08A Package Page; ComponentLink3URL: http://www.national.com/packaging/folders/m08a.html
footprint M08A_N (SOIC, 8-Leads, Body 4.9x3.9mm, Pitch 1.27mm, IPC Medium Density)
footprint M08A_L (SOIC, 8-Leads, Body 4.9x3.9mm, Pitch 1.27mm, IPC High Density)
footprint M08A_M (SOIC, 8-Leads, Body 4.9x3.9mm, Pitch 1.27mm, IPC Low Density)
pins: 1 RO (out), 2 ~{RE} (in), 3 DE (in), 4 DI (in), 5 GND (power), 6 A (io), 7 ~{B} (io), 8 VCC (power)

## DS485TMX
designator U?
Low-Power RS-485/RS-422 Multipoint Transceiver, 8-pin Narrow SOIC; PartNumber: DS485TMX; Manufacturer: National Semiconductor; PackageTopMarking: NSZXTT*DS485*TM; PowerWise: N; CompType: Interface IC; Published: 1-Mar-2010; DatasheetVersion: Jul-1998; PackageVersion: revM, May-2009; PackageReference: M08A; Publisher: Altium Limited; PackageDescription: SOIC Narrow, 4.9 x 3.9 x 1.45mm, 8 Lead, 1.27mm Pitch; RoHS: N; PinCount: 8; Code_JEDEC: MS-012-AA; Code_IPC: SOIC127P600-8; ComponentLink1Description: DS485 Datasheet; ComponentLink1URL: http://www.national.com/ds/DS/DS485.pdf; ComponentLink2Description: DS485 Web Page; ComponentLink2URL: http://www.national.com/pf/DS/DS485.html; ComponentLink3Description: M08A Package Page; ComponentLink3URL: http://www.national.com/packaging/folders/m08a.html
footprint M08A_N (SOIC, 8-Leads, Body 4.9x3.9mm, Pitch 1.27mm, IPC Medium Density)
footprint M08A_L (SOIC, 8-Leads, Body 4.9x3.9mm, Pitch 1.27mm, IPC High Density)
footprint M08A_M (SOIC, 8-Leads, Body 4.9x3.9mm, Pitch 1.27mm, IPC Low Density)
pins: 1 RO (out), 2 ~{RE} (in), 3 DE (in), 4 DI (in), 5 GND (power), 6 A (io), 7 ~{B} (io), 8 VCC (power)

## DS1487M
designator U?
Low Power RS-485/1/4 Unit Load Multipoint Transceiver, 8-pin Narrow SOIC; PartNumber: DS1487M; Manufacturer: National Semiconductor; PackageTopMarking: NSZXTT*DS148*7M; PowerWise: N; CompType: Interface IC; Published: 4-Dec-2008; DatasheetVersion: Jul-1998; PackageVersion: revM, May-2009; PackageReference: M08A; Publisher: Altium Limited; PackageDescription: SOIC Narrow, 4.9 x 3.9 x 1.45mm, 8 Lead, 1.27mm Pitch; Supplier 1: Farnell; Supplier Part Number 1: 4593716; RoHS: N; PinCount: 8; Code_JEDEC: MS-012-AA; Code_IPC: SOIC127P600-8; ComponentLink1Description: DS1487 Datasheet; ComponentLink1URL: http://www.national.com/ds/DS/DS1487.pdf; ComponentLink2Description: DS1487 Web Page; ComponentLink2URL: http://www.national.com/pf/DS/DS1487.html; ComponentLink3Description: M08A Package Page; ComponentLink3URL: http://www.national.com/packaging/folders/m08a.html
footprint M08A_N (SOIC, 8-Leads, Body 4.9x3.9mm, Pitch 1.27mm, IPC Medium Density)
footprint M08A_L (SOIC, 8-Leads, Body 4.9x3.9mm, Pitch 1.27mm, IPC High Density)
footprint M08A_M (SOIC, 8-Leads, Body 4.9x3.9mm, Pitch 1.27mm, IPC Low Density)
pins: 1 RO (out), 2 RE (in), 3 DE (in), 4 DI (in), 5 GND (power), 6 A (io), 7 B (io), 8 VCC (power)

## DS1487M/NOPB
designator U?
Low Power RS-485/1/4 Unit Load Multipoint Transceiver, 8-pin Narrow SOIC, Pb-Free; PartNumber: DS1487M/NOPB; Manufacturer: National Semiconductor; PackageTopMarking: NSZXTT*DS148*7M; PowerWise: N; CompType: Interface IC; Published: 1-Mar-2010; DatasheetVersion: Jul-1998; PackageVersion: revM, May-2009; PackageReference: M08A; Publisher: Altium Limited; PackageDescription: SOIC Narrow, 4.9 x 3.9 x 1.45mm, 8 Lead, 1.27mm Pitch; Supplier 1: Digi-Key; Supplier Part Number 1: DS1487M-ND; Supplier 2: Farnell; Supplier Part Number 2: 1469007; RoHS: Y; PinCount: 8; Code_JEDEC: MS-012-AA; Code_IPC: SOIC127P600-8; ComponentLink1Description: DS1487 Datasheet; ComponentLink1URL: http://www.national.com/ds/DS/DS1487.pdf; ComponentLink2Description: DS1487 Web Page; ComponentLink2URL: http://www.national.com/pf/DS/DS1487.html; ComponentLink3Description: M08A Package Page; ComponentLink3URL: http://www.national.com/packaging/folders/m08a.html
footprint M08A_N (SOIC, 8-Leads, Body 4.9x3.9mm, Pitch 1.27mm, IPC Medium Density)
footprint M08A_L (SOIC, 8-Leads, Body 4.9x3.9mm, Pitch 1.27mm, IPC High Density)
footprint M08A_M (SOIC, 8-Leads, Body 4.9x3.9mm, Pitch 1.27mm, IPC Low Density)
pins: 1 RO (out), 2 RE (in), 3 DE (in), 4 DI (in), 5 GND (power), 6 A (io), 7 B (io), 8 VCC (power)

## DS1487MX
designator U?
Low Power RS-485/1/4 Unit Load Multipoint Transceiver, 8-pin Narrow SOIC; PartNumber: DS1487MX; Manufacturer: National Semiconductor; PackageTopMarking: NSZXTT*DS148*7M; PowerWise: N; CompType: Interface IC; Published: 1-Mar-2010; DatasheetVersion: Jul-1998; PackageVersion: revM, May-2009; PackageReference: M08A; Publisher: Altium Limited; PackageDescription: SOIC Narrow, 4.9 x 3.9 x 1.45mm, 8 Lead, 1.27mm Pitch; RoHS: N; PinCount: 8; Code_JEDEC: MS-012-AA; Code_IPC: SOIC127P600-8; ComponentLink1Description: DS1487 Datasheet; ComponentLink1URL: http://www.national.com/ds/DS/DS1487.pdf; ComponentLink2Description: DS1487 Web Page; ComponentLink2URL: http://www.national.com/pf/DS/DS1487.html; ComponentLink3Description: M08A Package Page; ComponentLink3URL: http://www.national.com/packaging/folders/m08a.html
footprint M08A_N (SOIC, 8-Leads, Body 4.9x3.9mm, Pitch 1.27mm, IPC Medium Density)
footprint M08A_L (SOIC, 8-Leads, Body 4.9x3.9mm, Pitch 1.27mm, IPC High Density)
footprint M08A_M (SOIC, 8-Leads, Body 4.9x3.9mm, Pitch 1.27mm, IPC Low Density)
pins: 1 RO (out), 2 RE (in), 3 DE (in), 4 DI (in), 5 GND (power), 6 A (io), 7 B (io), 8 VCC (power)

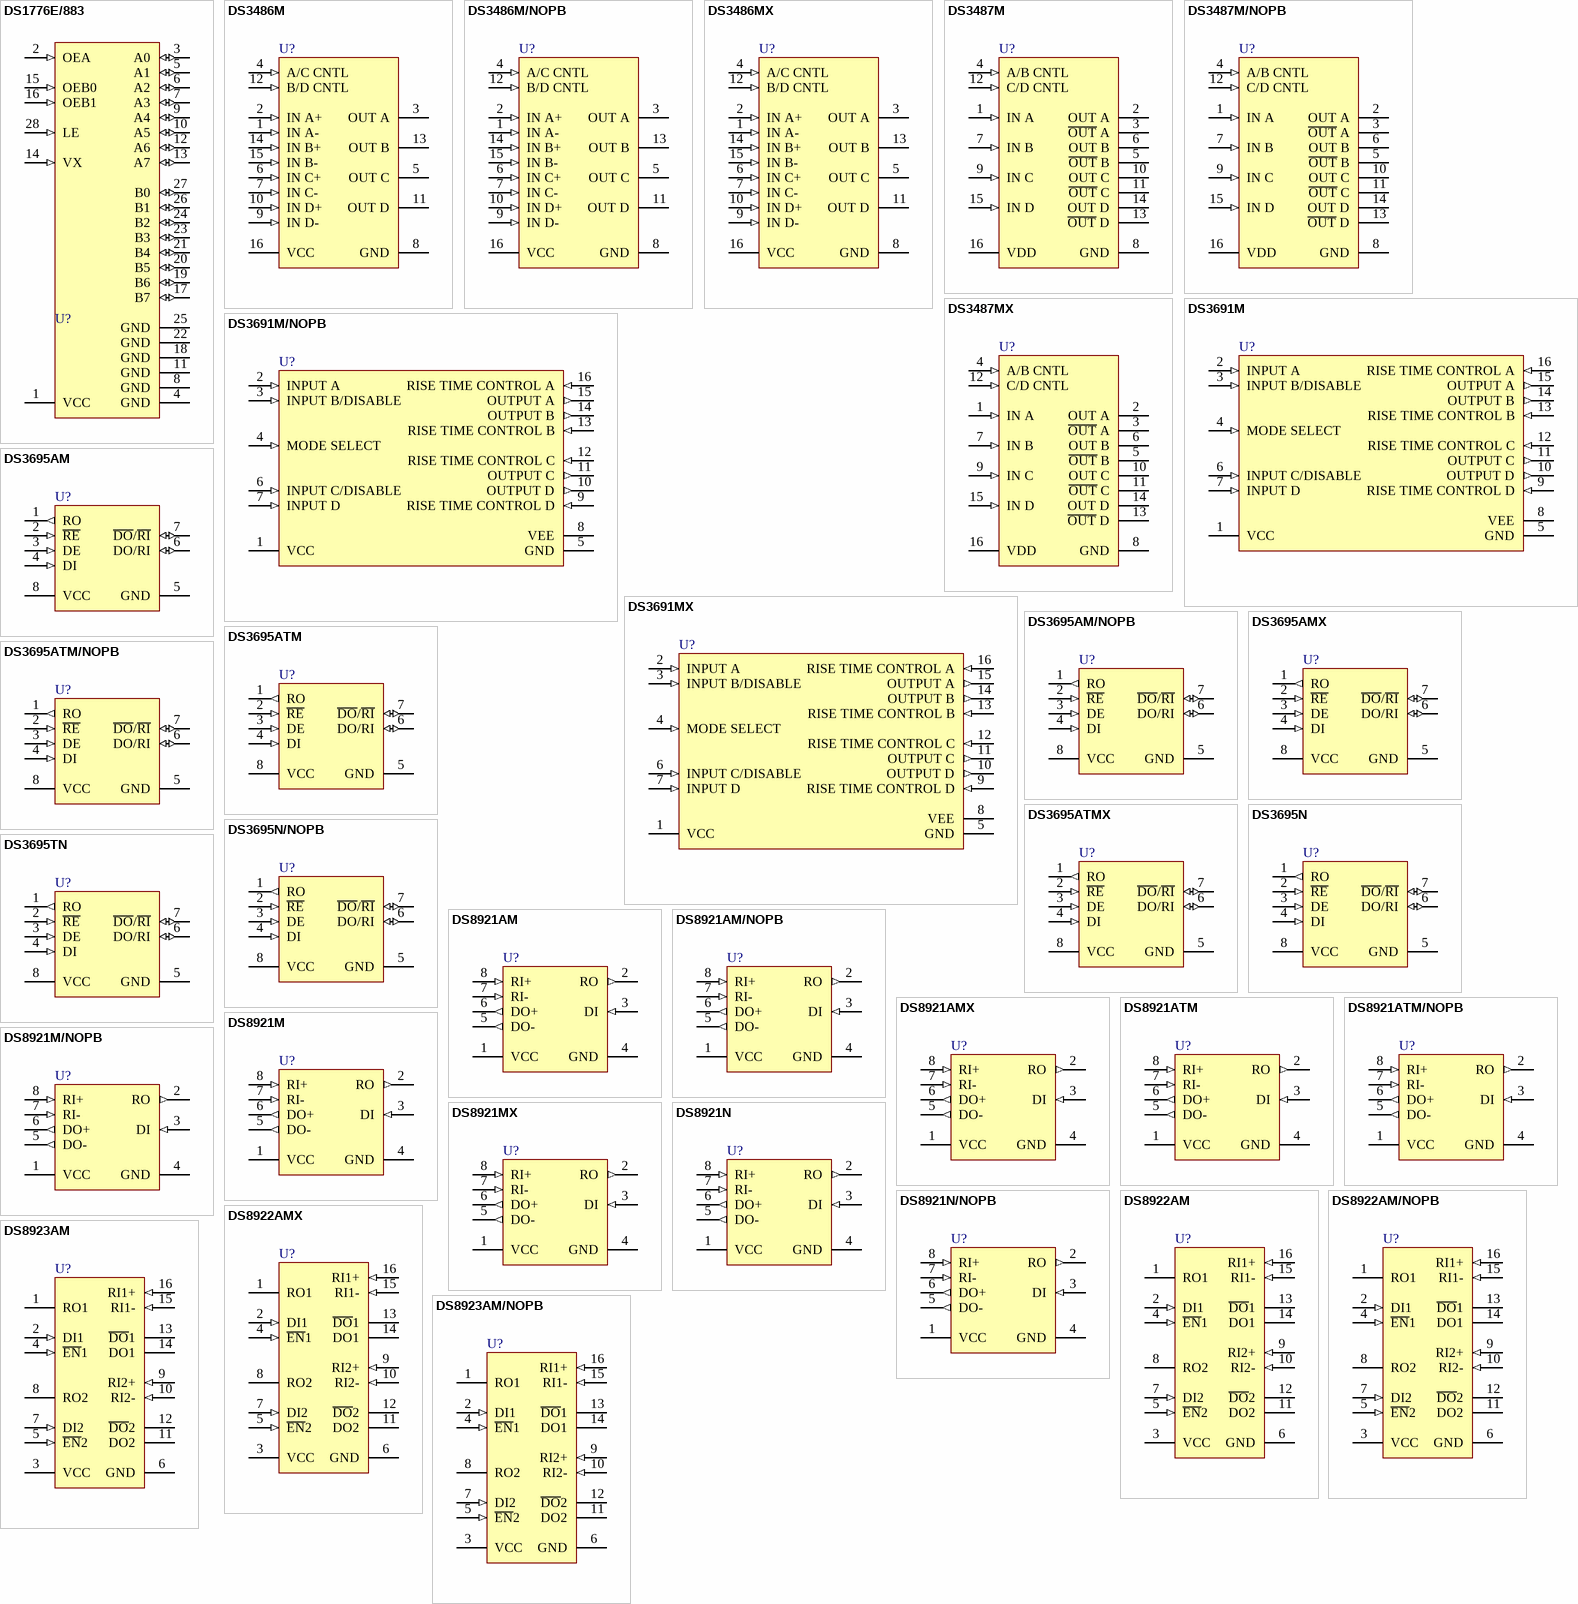
[diagram p74: symbols DS1776E/883 to DS8923AM/NOPB]

## DS1776E/883
designator U?
Pi-Bus Transceiver, 28-pin LCC; PartNumber: DS1776E/883; Manufacturer: National Semiconductor; PackageTopMarking: NSZSSXXYYA*DS1776E*/883 Q*5962-*9231701M3A; PowerWise: N; CompType: Interface IC; High-Reliability: Y; Published: 4-Dec-2008; DatasheetVersion: Jan-1996; PackageVersion: revG, Apr-2004; PackageReference: E28A; Publisher: Altium Limited; PackageDescription: Leadless Chip Carrier, .450 x .450 x .069in Body, Type C, 28 Terminal; RoHS: N; PinCount: 28; Code_JEDEC: MS-004-CC; ComponentLink1Description: DS1776 Datasheet; ComponentLink1URL: http://www.national.com/ds/DS/DS1776.pdf; ComponentLink2Description: DS1776 Web Page; ComponentLink2URL: http://www.national.com/pf/DS/DS1776.html; ComponentLink3Description: E28A Package Page; ComponentLink3URL: http://www.national.com/packaging/folders/e28a.html
footprint E28A_N (Leadless Chip Carrier, 28-Leads, Body 11.4x11.4mm, Pitch 1.27mm, IPC Medium Density)
footprint E28A_L (Leadless Chip Carrier, 28-Leads, Body 11.4x11.4mm, Pitch 1.27mm, IPC High Density)
footprint E28A_M (Leadless Chip Carrier, 28-Leads, Body 11.4x11.4mm, Pitch 1.27mm, IPC Low Density)
pins: 1 VCC (power), 2 OEA (in), 3 A0 (io), 4 GND (power), 5 A1 (io), 6 A2 (io), 7 A3 (io), 8 GND (power), 9 A4 (io), 10 A5 (io), 11 GND (power), 12 A6 (io), 13 A7 (io), 14 VX (in), 15 OEB0 (in), 16 OEB1 (in), 17 B7 (io), 18 GND (power), 19 B6 (io), 20 B5 (io), 21 B4 (io), 22 GND (power), 23 B3 (io), 24 B2 (io), 25 GND (power), 26 B1 (io), 27 B0 (io), 28 LE (in)

## DS3486M
designator U?
Quad RS-422, RS-423 Line Receiver, 16-pin Narrow SOIC; PartNumber: DS3486M; Manufacturer: National Semiconductor; PackageTopMarking: NSUZXYTTE#*DS3486M; PowerWise: N; CompType: Interface IC; Published: 4-Dec-2008; DatasheetVersion: Apr-2007; PackageVersion: revJ, Aug-1995; PackageReference: M16A; Publisher: Altium Limited; PackageDescription: Molded Package, SO, .150in Wide, 16 Lead; Supplier 1: Farnell; Supplier Part Number 1: 9490558; RoHS: N; PinCount: 16; Code_JEDEC: MS-012-AC; Code_IPC: SOIC127P600-16; ComponentLink1Description: DS3486 Datasheet; ComponentLink1URL: http://www.national.com/ds/DS/DS3486.pdf; ComponentLink2Description: DS3486 Web Page; ComponentLink2URL: http://www.national.com/pf/DS/DS3486.html; ComponentLink3Description: M16A Package Page; ComponentLink3URL: http://www.national.com/packaging/folders/m16a.html
footprint M16A_N (SOIC, 16-Leads, Body 9.9x3.9mm, Pitch 1.27mm, IPC Medium Density)
footprint M16A_L (SOIC, 16-Leads, Body 9.9x3.9mm, Pitch 1.27mm, IPC High Density)
footprint M16A_M (SOIC, 16-Leads, Body 9.9x3.9mm, Pitch 1.27mm, IPC Low Density)
pins: 1 IN A- (in), 2 IN A+ (in), 3 OUT A (hiz), 4 A/C CNTL (in), 5 OUT C (hiz), 6 IN C+ (in), 7 IN C- (in), 8 GND (power), 9 IN D- (in), 10 IN D+ (in), 11 OUT D (hiz), 12 B/D CNTL (in), 13 OUT B (hiz), 14 IN B+ (in), 15 IN B- (in), 16 VCC (power)

## DS3486M/NOPB
designator U?
Quad RS-422, RS-423 Line Receiver, 16-pin Narrow SOIC, Pb-Free; PartNumber: DS3486M/NOPB; Manufacturer: National Semiconductor; PackageTopMarking: NSUZXYTTE#*DS3486M; PowerWise: N; CompType: Interface IC; Published: 1-Mar-2010; DatasheetVersion: Apr-2007; PackageVersion: revJ, Aug-1995; PackageReference: M16A; Publisher: Altium Limited; PackageDescription: Molded Package, SO, .150in Wide, 16 Lead; Supplier 1: Digi-Key; Supplier Part Number 1: DS3486M-ND; Supplier 2: Farnell; Supplier Part Number 2: 1496007; RoHS: Y; PinCount: 16; Code_JEDEC: MS-012-AC; Code_IPC: SOIC127P600-16; ComponentLink1Description: DS3486 Datasheet; ComponentLink1URL: http://www.national.com/ds/DS/DS3486.pdf; ComponentLink2Description: DS3486 Web Page; ComponentLink2URL: http://www.national.com/pf/DS/DS3486.html; ComponentLink3Description: M16A Package Page; ComponentLink3URL: http://www.national.com/packaging/folders/m16a.html
footprint M16A_N (SOIC, 16-Leads, Body 9.9x3.9mm, Pitch 1.27mm, IPC Medium Density)
footprint M16A_L (SOIC, 16-Leads, Body 9.9x3.9mm, Pitch 1.27mm, IPC High Density)
footprint M16A_M (SOIC, 16-Leads, Body 9.9x3.9mm, Pitch 1.27mm, IPC Low Density)
pins: 1 IN A- (in), 2 IN A+ (in), 3 OUT A (hiz), 4 A/C CNTL (in), 5 OUT C (hiz), 6 IN C+ (in), 7 IN C- (in), 8 GND (power), 9 IN D- (in), 10 IN D+ (in), 11 OUT D (hiz), 12 B/D CNTL (in), 13 OUT B (hiz), 14 IN B+ (in), 15 IN B- (in), 16 VCC (power)

## DS3486MX
designator U?
Quad RS-422, RS-423 Line Receiver, 16-pin Narrow SOIC; PartNumber: DS3486MX; Manufacturer: National Semiconductor; PackageTopMarking: NSUZXYTTE#*DS3486M; PowerWise: N; CompType: Interface IC; Published: 1-Mar-2010; DatasheetVersion: Apr-2007; PackageVersion: revJ, Aug-1995; PackageReference: M16A; Publisher: Altium Limited; PackageDescription: Molded Package, SO, .150in Wide, 16 Lead; RoHS: N; PinCount: 16; Code_JEDEC: MS-012-AC; Code_IPC: SOIC127P600-16; ComponentLink1Description: DS3486 Datasheet; ComponentLink1URL: http://www.national.com/ds/DS/DS3486.pdf; ComponentLink2Description: DS3486 Web Page; ComponentLink2URL: http://www.national.com/pf/DS/DS3486.html; ComponentLink3Description: M16A Package Page; ComponentLink3URL: http://www.national.com/packaging/folders/m16a.html
footprint M16A_N (SOIC, 16-Leads, Body 9.9x3.9mm, Pitch 1.27mm, IPC Medium Density)
footprint M16A_L (SOIC, 16-Leads, Body 9.9x3.9mm, Pitch 1.27mm, IPC High Density)
footprint M16A_M (SOIC, 16-Leads, Body 9.9x3.9mm, Pitch 1.27mm, IPC Low Density)
pins: 1 IN A- (in), 2 IN A+ (in), 3 OUT A (hiz), 4 A/C CNTL (in), 5 OUT C (hiz), 6 IN C+ (in), 7 IN C- (in), 8 GND (power), 9 IN D- (in), 10 IN D+ (in), 11 OUT D (hiz), 12 B/D CNTL (in), 13 OUT B (hiz), 14 IN B+ (in), 15 IN B- (in), 16 VCC (power)

## DS3487M
designator U?
Quad Tri-State Line Driver, 16-pin Narrow SOIC; PartNumber: DS3487M; Manufacturer: National Semiconductor; PackageTopMarking: NSUZXYTTE#*DS3487M; PowerWise: N; CompType: Interface IC; Published: 4-Dec-2008; DatasheetVersion: May-1998; PackageVersion: revJ, Aug-1995; PackageReference: M16A; Publisher: Altium Limited; PackageDescription: Molded Package, SO, .150in Wide, 16 Lead; Supplier 1: Farnell; Supplier Part Number 1: 571234; RoHS: N; PinCount: 16; Code_JEDEC: MS-012-AC; Code_IPC: SOIC127P600-16; ComponentLink1Description: DS3487 Datasheet; ComponentLink1URL: http://www.national.com/ds/DS/DS3487.pdf; ComponentLink2Description: DS3487 Web Page; ComponentLink2URL: http://www.national.com/pf/DS/DS3487.html; ComponentLink3Description: M16A Package Page; ComponentLink3URL: http://www.national.com/packaging/folders/m16a.html
footprint M16A_N (SOIC, 16-Leads, Body 9.9x3.9mm, Pitch 1.27mm, IPC Medium Density)
footprint M16A_L (SOIC, 16-Leads, Body 9.9x3.9mm, Pitch 1.27mm, IPC High Density)
footprint M16A_M (SOIC, 16-Leads, Body 9.9x3.9mm, Pitch 1.27mm, IPC Low Density)
pins: 1 IN A (in), 2 OUT A (hiz), 3 ~{OUT} A (hiz), 4 A/B CNTL (in), 5 ~{OUT} B (hiz), 6 OUT B (hiz), 7 IN B (in), 8 GND (power), 9 IN C (in), 10 OUT C (hiz), 11 ~{OUT} C (hiz), 12 C/D CNTL (in), 13 ~{OUT} D (hiz), 14 OUT D (hiz), 15 IN D (in), 16 VDD (power)

## DS3487M/NOPB
designator U?
Quad Tri-State Line Driver, 16-pin Narrow SOIC, Pb-Free; PartNumber: DS3487M/NOPB; Manufacturer: National Semiconductor; PackageTopMarking: NSUZXYTTE#*DS3487M; PowerWise: N; CompType: Interface IC; Published: 1-Mar-2010; DatasheetVersion: May-1998; PackageVersion: revJ, Aug-1995; PackageReference: M16A; Publisher: Altium Limited; PackageDescription: Molded Package, SO, .150in Wide, 16 Lead; Supplier 1: Digi-Key; Supplier Part Number 1: DS3487M-ND; RoHS: Y; PinCount: 16; Code_JEDEC: MS-012-AC; Code_IPC: SOIC127P600-16; ComponentLink1Description: DS3487 Datasheet; ComponentLink1URL: http://www.national.com/ds/DS/DS3487.pdf; ComponentLink2Description: DS3487 Web Page; ComponentLink2URL: http://www.national.com/pf/DS/DS3487.html; ComponentLink3Description: M16A Package Page; ComponentLink3URL: http://www.national.com/packaging/folders/m16a.html
footprint M16A_N (SOIC, 16-Leads, Body 9.9x3.9mm, Pitch 1.27mm, IPC Medium Density)
footprint M16A_L (SOIC, 16-Leads, Body 9.9x3.9mm, Pitch 1.27mm, IPC High Density)
footprint M16A_M (SOIC, 16-Leads, Body 9.9x3.9mm, Pitch 1.27mm, IPC Low Density)
pins: 1 IN A (in), 2 OUT A (hiz), 3 ~{OUT} A (hiz), 4 A/B CNTL (in), 5 ~{OUT} B (hiz), 6 OUT B (hiz), 7 IN B (in), 8 GND (power), 9 IN C (in), 10 OUT C (hiz), 11 ~{OUT} C (hiz), 12 C/D CNTL (in), 13 ~{OUT} D (hiz), 14 OUT D (hiz), 15 IN D (in), 16 VDD (power)

## DS3487MX
designator U?
Quad Tri-State Line Driver, 16-pin Narrow SOIC; PartNumber: DS3487MX; Manufacturer: National Semiconductor; PackageTopMarking: NSUZXYTTE#*DS3487M; PowerWise: N; CompType: Interface IC; Published: 1-Mar-2010; DatasheetVersion: May-1998; PackageVersion: revJ, Aug-1995; PackageReference: M16A; Publisher: Altium Limited; PackageDescription: Molded Package, SO, .150in Wide, 16 Lead; RoHS: N; PinCount: 16; Code_JEDEC: MS-012-AC; Code_IPC: SOIC127P600-16; ComponentLink1Description: DS3487 Datasheet; ComponentLink1URL: http://www.national.com/ds/DS/DS3487.pdf; ComponentLink2Description: DS3487 Web Page; ComponentLink2URL: http://www.national.com/pf/DS/DS3487.html; ComponentLink3Description: M16A Package Page; ComponentLink3URL: http://www.national.com/packaging/folders/m16a.html
footprint M16A_N (SOIC, 16-Leads, Body 9.9x3.9mm, Pitch 1.27mm, IPC Medium Density)
footprint M16A_L (SOIC, 16-Leads, Body 9.9x3.9mm, Pitch 1.27mm, IPC High Density)
footprint M16A_M (SOIC, 16-Leads, Body 9.9x3.9mm, Pitch 1.27mm, IPC Low Density)
pins: 1 IN A (in), 2 OUT A (hiz), 3 ~{OUT} A (hiz), 4 A/B CNTL (in), 5 ~{OUT} B (hiz), 6 OUT B (hiz), 7 IN B (in), 8 GND (power), 9 IN C (in), 10 OUT C (hiz), 11 ~{OUT} C (hiz), 12 C/D CNTL (in), 13 ~{OUT} D (hiz), 14 OUT D (hiz), 15 IN D (in), 16 VDD (power)

## DS3691M
designator U?
RS-422/RS-423 Line Drivers With Tri-State Outputs, 16-pin Narrow SOIC; PartNumber: DS3691M; Manufacturer: National Semiconductor; PackageTopMarking: NSUZXYTTE#*DS3691M*AM26LS30SC; PowerWise: N; CompType: Interface IC; Published: 4-Dec-2008; DatasheetVersion: Jul-1998; PackageVersion: revJ, Aug-1995; PackageReference: M16A; Publisher: Altium Limited; PackageDescription: Molded Package, SO, .150in Wide, 16 Lead; Supplier 1: Farnell; Supplier Part Number 1: 9490566; RoHS: N; PinCount: 16; Code_JEDEC: MS-012-AC; Code_IPC: SOIC127P600-16; ComponentLink1Description: DS3691 Datasheet; ComponentLink1URL: http://www.national.com/ds/DS/DS3691.pdf; ComponentLink2Description: DS3691 Web Page; ComponentLink2URL: http://www.national.com/pf/DS/DS3691.html; ComponentLink3Description: M16A Package Page; ComponentLink3URL: http://www.national.com/packaging/folders/m16a.html
footprint M16A_N (SOIC, 16-Leads, Body 9.9x3.9mm, Pitch 1.27mm, IPC Medium Density)
footprint M16A_L (SOIC, 16-Leads, Body 9.9x3.9mm, Pitch 1.27mm, IPC High Density)
footprint M16A_M (SOIC, 16-Leads, Body 9.9x3.9mm, Pitch 1.27mm, IPC Low Density)
pins: 1 VCC (power), 2 INPUT A (in), 3 INPUT B/DISABLE (in), 4 MODE SELECT (in), 5 GND (power), 6 INPUT C/DISABLE (in), 7 INPUT D (in), 8 VEE (power), 9 RISE TIME CONTROL D (in), 10 OUTPUT D (out), 11 OUTPUT C (out), 12 RISE TIME CONTROL C (in), 13 RISE TIME CONTROL B (in), 14 OUTPUT B (out), 15 OUTPUT A (out), 16 RISE TIME CONTROL A (in)

## DS3691M/NOPB
designator U?
RS-422/RS-423 Line Drivers With Tri-State Outputs, 16-pin Narrow SOIC, Pb-Free; PartNumber: DS3691M/NOPB; Manufacturer: National Semiconductor; PackageTopMarking: NSUZXYTTE#*DS3691M*AM26LS30SC; PowerWise: N; CompType: Interface IC; Published: 1-Mar-2010; DatasheetVersion: Jul-1998; PackageVersion: revJ, Aug-1995; PackageReference: M16A; Publisher: Altium Limited; PackageDescription: Molded Package, SO, .150in Wide, 16 Lead; Supplier 1: Digi-Key; Supplier Part Number 1: DS3691M-ND; Supplier 2: Farnell; Supplier Part Number 2: 1137817; RoHS: Y; PinCount: 16; Code_JEDEC: MS-012-AC; Code_IPC: SOIC127P600-16; ComponentLink1Description: DS3691 Datasheet; ComponentLink1URL: http://www.national.com/ds/DS/DS3691.pdf; ComponentLink2Description: DS3691 Web Page; ComponentLink2URL: http://www.national.com/pf/DS/DS3691.html; ComponentLink3Description: M16A Package Page; ComponentLink3URL: http://www.national.com/packaging/folders/m16a.html
footprint M16A_N (SOIC, 16-Leads, Body 9.9x3.9mm, Pitch 1.27mm, IPC Medium Density)
footprint M16A_L (SOIC, 16-Leads, Body 9.9x3.9mm, Pitch 1.27mm, IPC High Density)
footprint M16A_M (SOIC, 16-Leads, Body 9.9x3.9mm, Pitch 1.27mm, IPC Low Density)
pins: 1 VCC (power), 2 INPUT A (in), 3 INPUT B/DISABLE (in), 4 MODE SELECT (in), 5 GND (power), 6 INPUT C/DISABLE (in), 7 INPUT D (in), 8 VEE (power), 9 RISE TIME CONTROL D (in), 10 OUTPUT D (out), 11 OUTPUT C (out), 12 RISE TIME CONTROL C (in), 13 RISE TIME CONTROL B (in), 14 OUTPUT B (out), 15 OUTPUT A (out), 16 RISE TIME CONTROL A (in)